# EAGLE library part GENERIC-2X10 (library p.peter-connectors)
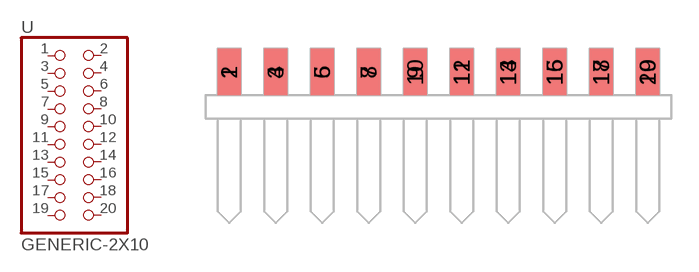
[diagram p15: symbol with the pads of PINHEADER-100MIL-2X10-EDGE; footprint PINHEADER-100MIL-2X10-EDGE]

Designator prefix -

## GENERIC-2X10  [PINHEADER-100MIL-2X10-EDGE]
1  1  pas
2  2  pas
3  3  pas
4  4  pas
5  5  pas
6  6  pas
7  7  pas
8  8  pas
9  9  pas
10  10  pas
11  11  pas
12  12  pas
13  13  pas
14  14  pas
15  15  pas
16  16  pas
17  17  pas
18  18  pas
19  19  pas
20  20  pas

## Footprint PINHEADER-100MIL-2X10-EDGE (pad centres in mm)
smd 1.27 x 2.54 bottom: 1 -11.43,1.27; 3 -8.89,1.27; 5 -6.35,1.27; 7 -3.81,1.27; 9 -1.27,1.27; 11 1.27,1.27; 13 3.81,1.27; 15 6.35,1.27; 17 8.89,1.27; 19 11.43,1.27
smd 1.27 x 2.54: 2 -11.43,1.27; 4 -8.89,1.27; 6 -6.35,1.27; 8 -3.81,1.27; 10 -1.27,1.27; 12 1.27,1.27; 14 3.81,1.27; 16 6.35,1.27; 18 8.89,1.27; 20 11.43,1.27